# Altium schematic symbol library WE-OLSTM.SchLib: 28 symbols
Pins are listed as number, name and electrical type; pins without a type are passive.

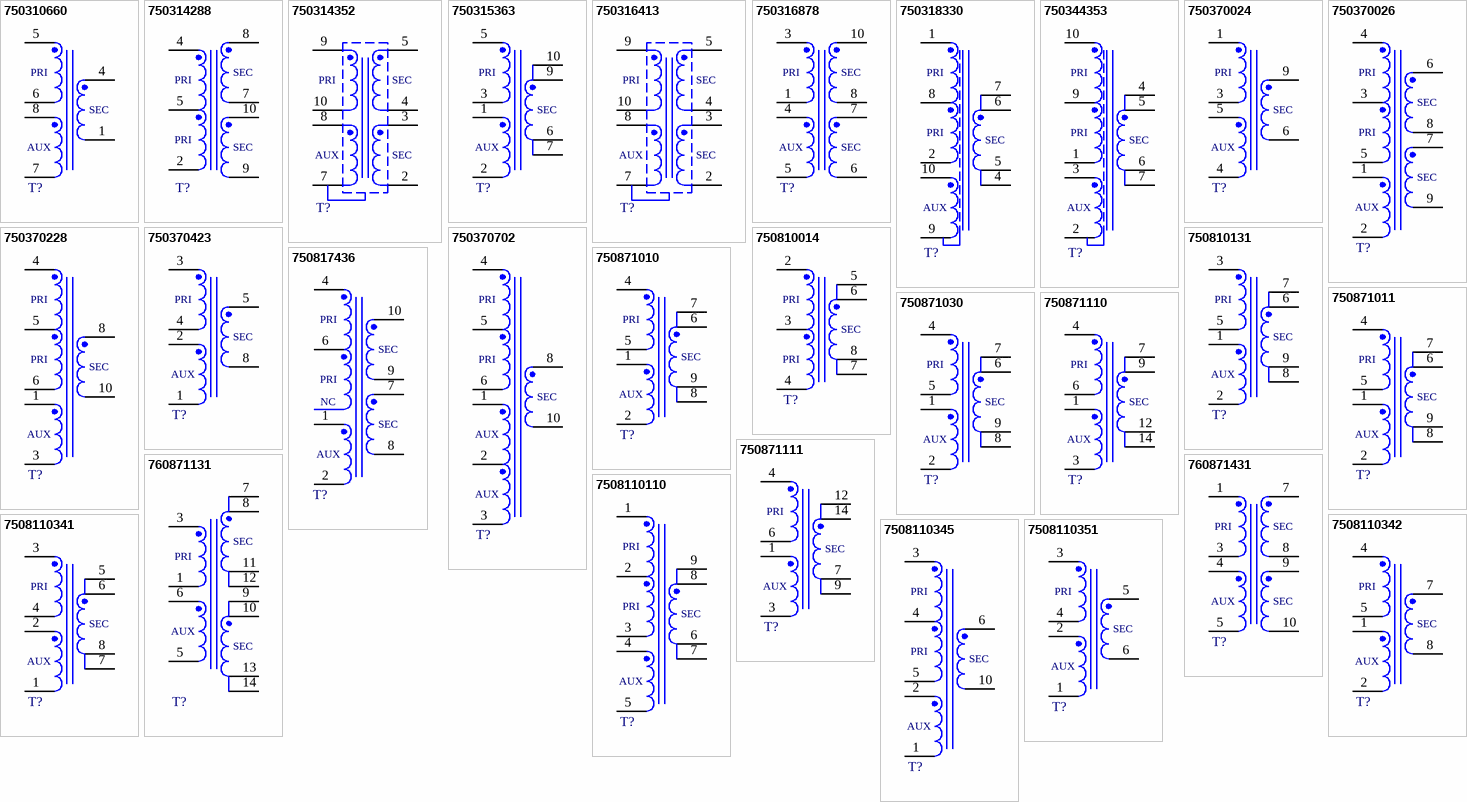
[diagram p0: symbols 750310660 to 7508110351]

## 750310660
designator T?, comment Ui = 85 - 265V, Uo = 12V / 0.5A  (value not drawn)
WE-OLSTM Offline Flyback Transformer, THT, EE16/8/5, Ui = 85 - 265V, Uo = 12V / 0.5A; Manufacturer Part Number: 750310660; Manufacturer: Wurth Elektronik; Inductance: 1.2mH; Input Voltage: 85 - 265V (AC); Insulation Test Voltage: 3600V (AC); Switching Frequency: 120kHz; Category: Transformers For AC-DC Converter; Match Code: WE-OLSTM; ComponentLink1Description: Website Link; ComponentLink1URL: https://www.we-online.com/redexpert/article/750310660?ad; ComponentLink2Description: Datasheet Link; ComponentLink2URL: https://www.we-online.com/redexpert/spec/750310660?ad; Mount: Through Hole; Operating Temperature Max: 125°C; Operating Temperature Min: -40°C; Packaging: Tray; Case/Size Code: EE16/8/5; Auxiliary Voltage: 12V; Output Current: 0.5A; Output Voltage: 12V
footprint EE16/8/5_750310660
pins: 1, 4, 5, 6, 7, 8
text: PRI; SEC; AUX

## 750314288
designator T?, comment Ui = 85 - 265V, Uo1 = -5V / 0.8A, Uo2 = 7V / 0.42A  (value not drawn)
WE-OLSTM Offline Flyback Transformer, THT, EE16/7/5, Ui = 85 - 265V, Uo1 = -5V / 0.8A, Uo2 = 7V / 0.42A; Manufacturer Part Number: 750314288; Manufacturer: Wurth Elektronik; Inductance: 2.5mH; Input Voltage: 85 - 265V (AC); Insulation Test Voltage: 2000V (AC); Saturation Current: 0.5A; Switching Frequency: 60kHz; Category: Transformers For AC-DC Converter; Match Code: WE-OLSTM; ComponentLink1Description: Website Link; ComponentLink1URL: https://www.we-online.com/redexpert/article/750314288?ad; ComponentLink2Description: Datasheet Link; ComponentLink2URL: https://www.we-online.com/redexpert/spec/750314288?ad; Mount: Through Hole; Operating Temperature Max: 125°C; Operating Temperature Min: -40°C; Packaging: Tray; Case/Size Code: EE16/7/5; Output Current 1: 0.8A; Output Current 2: 0.42A; Output Voltage 1: -5V; Output Voltage 2: 7V
footprint EE16/7/5_750314288
pins: 2, 4, 5, 7, 8, 9, 10
text: SEC; PRI

## 750314352
designator T?, comment Ui = 85 - 265V, Uo1 = 6V / 0.1A, Uo2 = 15V / 0.7A  (value not drawn)
WE-OLSTM Offline Flyback Transformer, THT, EE16/7/5, Ui = 85 - 265V, Uo1 = 6V / 0.1A, Uo2 = 15V / 0.7A; Manufacturer Part Number: 750314352; Manufacturer: Wurth Elektronik; Auxiliary Voltage: 12V; Inductance: 0.9mH; Input Voltage: 85 - 265V (AC); Insulation Test Voltage: 1500V (AC); Saturation Current: 0.82A; Switching Frequency: 115kHz; Category: Transformers For AC-DC Converter; Match Code: WE-OLSTM; ComponentLink1Description: Website Link; ComponentLink1URL: https://www.we-online.com/redexpert/article/750314352?ad; ComponentLink2Description: Datasheet Link; ComponentLink2URL: https://www.we-online.com/redexpert/spec/750314352?ad; Mount: Through Hole; Operating Temperature Max: 125°C; Operating Temperature Min: -40°C; Packaging: Tray; Case/Size Code: EE16/7/5; Output Current 1: 0.1A; Output Current 2: 0.7A; Output Voltage 1: 6V; Output Voltage 2: 15V
footprint EE16/7/5_750314352
pins: 2, 3, 4, 5, 7, 8, 9, 10
text: PRI; SEC; AUX

## 750315363
designator T?, comment Ui = 85 - 265V, Uo = 12V / 0.6A  (value not drawn)
WE-OLSTM Offline Flyback Transformer, THT, EE16/7/5, Ui = 85 - 265V, Uo = 12V / 0.6A; Manufacturer Part Number: 750315363; Manufacturer: Wurth Elektronik; Auxiliary Voltage: 5.1V; Inductance: 2mH; Input Voltage: 85 - 265V (AC); Insulation Test Voltage: 3000V (AC); Saturation Current: 0.625A; Switching Frequency: 60kHz; Category: Transformers For AC-DC Converter; Match Code: WE-OLSTM; ComponentLink1Description: Website Link; ComponentLink1URL: https://www.we-online.com/redexpert/article/750315363?ad; ComponentLink2Description: Datasheet Link; ComponentLink2URL: https://www.we-online.com/redexpert/spec/750315363?ad; Mount: Through Hole; Operating Temperature Max: 125°C; Operating Temperature Min: -40°C; Packaging: Tray; Case/Size Code: EE16/7/5; Output Current: 0.6A; Output Voltage: 12V
footprint EE16/7/5_750315363
pins: 1, 2, 3, 5, 6, 7, 9, 10
text: PRI; SEC; AUX

## 750316413
designator T?, comment Ui = 85 - 265V, Uo1 = 15V / 0.6A, Uo2 = 6V / 0.1A  (value not drawn)
WE-OLSTM Offline Flyback Transformer, THT, EE16/7/5, Ui = 85 - 265V, Uo1 = 15V / 0.6A, Uo2 = 6V / 0.1A; Manufacturer Part Number: 750316413; Manufacturer: Wurth Elektronik; Auxiliary Voltage: 13V; Inductance: 1.5mH; Input Voltage: 85 - 265V (AC); Insulation Test Voltage: 1500V (AC); Saturation Current: 0.7A; Switching Frequency: 60kHz; Category: Transformers For AC-DC Converter; Match Code: WE-OLSTM; ComponentLink1Description: Website Link; ComponentLink1URL: https://www.we-online.com/redexpert/article/750316413?ad; ComponentLink2Description: Datasheet Link; ComponentLink2URL: https://www.we-online.com/redexpert/spec/750316413?ad; Mount: Through Hole; Operating Temperature Max: 125°C; Operating Temperature Min: -40°C; Packaging: Tray; Case/Size Code: EE16/7/5; Output Current 1: 0.6A; Output Current 2: 0.1A; Output Voltage 1: 15V; Output Voltage 2: 6V
footprint EE16/7/5_750316413
pins: 2, 3, 4, 5, 7, 8, 9, 10
text: PRI; SEC; AUX

## 750316878
designator T?, comment Ui = 85 - 265V, Uo1 = 13V / 0.7A, Uo2 = 4.5V / 0.1A  (value not drawn)
WE-OLSTM Offline Flyback Transformer, THT, EE16/7/5, Ui = 85 - 265V, Uo1 = 13V / 0.7A, Uo2 = 4.5V / 0.1A; Manufacturer Part Number: 750316878; Manufacturer: Wurth Elektronik; Auxiliary Voltage: 15V; Inductance: 2.2mH; Input Voltage: 85 - 265V (AC); Insulation Test Voltage: 4000V (AC); Saturation Current: 0.47A; Switching Frequency: 80kHz; Category: Transformers For AC-DC Converter; Match Code: WE-OLSTM; ComponentLink1Description: Website Link; ComponentLink1URL: https://www.we-online.com/redexpert/article/750316878?ad; ComponentLink2Description: Datasheet Link; ComponentLink2URL: https://www.we-online.com/redexpert/spec/750316878?ad; Mount: Through Hole; Operating Temperature Max: 125°C; Operating Temperature Min: -40°C; Packaging: Tray; Case/Size Code: EE16/7/5; Output Current 1: 0.7A; Output Current 2: 0.1A; Output Voltage 1: 13V; Output Voltage 2: 4.5V
footprint EE16/7/5_750316878
pins: 1, 3, 4, 5, 6, 7, 8, 10
text: PRI; SEC; AUX

## 750318330
designator T?, comment Ui = 120 - 375V, Uo = 12V / 2.25A  (value not drawn)
WE-OLSTM Offline Flyback Transformer, THT, RM8, Ui = 120 - 375V, Uo = 12V / 2.25A; Manufacturer Part Number: 750318330; Manufacturer: Wurth Elektronik; Inductance: 0.15mH; Input Voltage: 120 - 375V (AC); Insulation Test Voltage: 4000V (AC); Saturation Current: 4.8A; Switching Frequency: 56 - 138kHz; Category: Transformers For AC-DC Converter; Match Code: WE-OLSTM; ComponentLink1Description: Website Link; ComponentLink1URL: https://www.we-online.com/redexpert/article/750318330?ad; ComponentLink2Description: Datasheet Link; ComponentLink2URL: https://www.we-online.com/redexpert/spec/750318330?ad; Mount: Through Hole; Operating Temperature Max: 125°C; Operating Temperature Min: -40°C; Packaging: Tray; Case/Size Code: RM8; Auxiliary Voltage: 12V; Output Current: 2.25A; Output Voltage: 12V
footprint RM8_750318330
pins: 1, 2, 4, 5, 6, 7, 8, 9, 10
text: PRI; SEC; AUX

## 750344353
designator T?, comment Ui = 90 - 265V, Uo = 20V / 2.25A  (value not drawn)
WE-OLSTM Offline Flyback Transformer, THT, RM8, Ui = 90 - 265V, Uo = 20V / 2.25A; Manufacturer Part Number: 750344353; Manufacturer: Wurth Elektronik; Auxiliary Voltage: 12V; Inductance: 0.4mH; Input Voltage: 90 - 265V (AC); Insulation Test Voltage: 4000V (AC); Saturation Current: 2A; Switching Frequency: 60 - 150kHz; Category: Transformers For AC-DC Converter; Match Code: WE-OLSTM; ComponentLink1Description: Website Link; ComponentLink1URL: https://www.we-online.com/redexpert/article/750344353?ad; ComponentLink2Description: Datasheet Link; ComponentLink2URL: https://www.we-online.com/redexpert/spec/750344353?ad; Mount: Through Hole; Operating Temperature Max: 125°C; Operating Temperature Min: -40°C; Packaging: Tray; Case/Size Code: RM8; Output Current: 2.25A; Output Voltage: 20V
footprint RM8_750344353
pins: 1, 2, 3, 4, 5, 6, 7, 9, 10
text: PRI; SEC; AUX

## 750370024
designator T?, comment Ui = 85 - 424V, Uo = 12V / 0.5A  (value not drawn)
WE-OLSTM Offline Flyback Transformer, THT, EE13/7/4, Ui = 85 - 424V, Uo = 12V / 0.5A; Manufacturer Part Number: 750370024; Manufacturer: Wurth Elektronik; Auxiliary Voltage: 16V; Inductance: 1.6mH; Input Voltage: 85 - 424V (AC); Insulation Test Voltage: 4000V (AC); Saturation Current: 0.34A; Switching Frequency: 115kHz; Category: Transformers For AC-DC Converter; Match Code: WE-OLSTM; ComponentLink1Description: Website Link; ComponentLink1URL: https://www.we-online.com/redexpert/article/750370024?ad; ComponentLink2Description: Datasheet Link; ComponentLink2URL: https://www.we-online.com/redexpert/spec/750370024?ad; Mount: Through Hole; Operating Temperature Max: 125°C; Operating Temperature Min: -40°C; Packaging: Tray; Case/Size Code: EE13/7/4; Output Current: 0.5A; Output Voltage: 12V
footprint EE13/7/4_750370024
pins: 1, 3, 4, 5, 6, 9
text: PRI; SEC; AUX

## 750370026
designator T?, comment Ui = 85 - 265V, Uo1 = 12V / 0.3A, Uo2 = 12V / 0.3A  (value not drawn)
WE-OLSTM Offline Flyback Transformer, THT, EE16/8/5, Ui = 85 - 265V, Uo1 = 12V / 0.3A, Uo2 = 12V / 0.3A; Manufacturer Part Number: 750370026; Manufacturer: Wurth Elektronik; Inductance: 3.9mH; Input Voltage: 85 - 265V (AC); Insulation Test Voltage: 3200V (AC); Saturation Current: 0.44A; Switching Frequency: 70 - 134kHz; Category: Transformers For AC-DC Converter; Match Code: WE-OLSTM; ComponentLink1Description: Website Link; ComponentLink1URL: https://www.we-online.com/redexpert/article/750370026?ad; ComponentLink2Description: Datasheet Link; ComponentLink2URL: https://www.we-online.com/redexpert/spec/750370026?ad; Mount: Through Hole; Operating Temperature Max: 125°C; Operating Temperature Min: -40°C; Packaging: Tray; Case/Size Code: EE16/8/5; Auxiliary Voltage: 12V; Output Current 1: 0.3A; Output Current 2: 0.3A; Output Voltage 1: 12V; Output Voltage 2: 12V
footprint EE16/8/5_750370026
pins: 1, 2, 3, 4, 5, 6, 7, 8, 9
text: PRI; SEC; AUX

## 750370228
designator T?, comment Ui = 85 - 265V, Uo = 12V / 1.25A  (value not drawn)
WE-OLSTM Offline Flyback Transformer, THT, EE20/10/6, Ui = 85 - 265V, Uo = 12V / 1.25A; Manufacturer Part Number: 750370228; Manufacturer: Wurth Elektronik; Inductance: 1.5mH; Input Voltage: 85 - 265V (AC); Insulation Test Voltage: 3900V (AC); Saturation Current: 1.325A; Switching Frequency: 50 - 60kHz; Category: Transformers For AC-DC Converter; Match Code: WE-OLSTM; ComponentLink1Description: Website Link; ComponentLink1URL: https://www.we-online.com/redexpert/article/750370228?ad; ComponentLink2Description: Datasheet Link; ComponentLink2URL: https://www.we-online.com/redexpert/spec/750370228?ad; Mount: Through Hole; Operating Temperature Max: 125°C; Operating Temperature Min: -40°C; Packaging: Tray; Case/Size Code: EE20/10/6; Auxiliary Voltage: 12V; Output Current: 1.25A; Output Voltage: 12V
footprint EE20/10/6_750370228
pins: 1, 3, 4, 5, 6, 8, 10
text: PRI; SEC; AUX

## 750370423
designator T?, comment Ui = 85 - 265V, Uo = 5V / 0.6A  (value not drawn)
WE-OLSTM Offline Flyback Transformer, THT, EE13/7/6, Ui = 85 - 265V, Uo = 5V / 0.6A; Manufacturer Part Number: 750370423; Manufacturer: Wurth Elektronik; Auxiliary Voltage: 13.3V; Input Voltage: 85 - 265V (AC); Insulation Test Voltage: 3900V (AC); Switching Frequency: 115kHz; Category: Transformers For AC-DC Converter; Match Code: WE-OLSTM; ComponentLink1Description: Website Link; ComponentLink1URL: https://www.we-online.com/redexpert/article/750370423?ad; ComponentLink2Description: Datasheet Link; ComponentLink2URL: https://www.we-online.com/redexpert/spec/750370423?ad; Mount: Through Hole; Operating Temperature Max: 125°C; Operating Temperature Min: -40°C; Packaging: Tray; Case/Size Code: EE13/7/6; Output Current: 0.6A; Output Voltage: 5V; Saturation Current: 0.6A
footprint EE13/7/6_750370423
pins: 1, 2, 3, 4, 5, 8
text: PRI; SEC; AUX

## 750370702
designator T?, comment Ui = 85 - 264V, Uo = 12V / 1A  (value not drawn)
WE-OLSTM Offline Flyback Transformer, THT, EE20/10/6, Ui = 85 - 264V, Uo = 12V / 1A; Manufacturer Part Number: 750370702; Manufacturer: Wurth Elektronik; Auxiliary Voltage: 15V; Inductance: 1.5mH; Input Voltage: 85 - 264V (AC); Insulation Test Voltage: 3200V (AC); Saturation Current: 1.2A; Switching Frequency: 67 - 97kHz; Category: Transformers For AC-DC Converter; Match Code: WE-OLSTM; ComponentLink1Description: Website Link; ComponentLink1URL: https://www.we-online.com/redexpert/article/750370702?ad; ComponentLink2Description: Datasheet Link; ComponentLink2URL: https://www.we-online.com/redexpert/spec/750370702?ad; Mount: Through Hole; Operating Temperature Max: 125°C; Operating Temperature Min: -40°C; Packaging: Tray; Case/Size Code: EE20/10/6; Output Current: 1A; Output Voltage: 12V
footprint EE20/10/6_750370702
pins: 1, 2, 3, 4, 5, 6, 8, 10
text: PRI; SEC; AUX

## 750810014
designator T?, comment Ui = 85 - 265V, Uo = 5V / 1.2A  (value not drawn)
WE-OLSTM Offline Flyback Transformer, THT, EE13/7/6, Ui = 85 - 265V, Uo = 5V / 1.2A; Manufacturer Part Number: 750810014; Manufacturer: Wurth Elektronik; Inductance: 2mH; Input Voltage: 85 - 265V (AC); Insulation Test Voltage: 1875V (AC); Saturation Current: 0.53A; Switching Frequency: 60kHz; Category: Transformers For AC-DC Converter; Match Code: WE-OLSTM; ComponentLink1Description: Website Link; ComponentLink1URL: https://www.we-online.com/redexpert/article/750810014?ad; ComponentLink2Description: Datasheet Link; ComponentLink2URL: https://www.we-online.com/redexpert/spec/750810014?ad; Mount: Through Hole; Operating Temperature Max: 125°C; Operating Temperature Min: -40°C; Packaging: Tray; Case/Size Code: EE13/7/6; Output Current: 1.2A; Output Voltage: 5V
footprint EE13/7/6_750810014
pins: 2, 3, 4, 5, 6, 7, 8
text: PRI; SEC

## 750810131
designator T?, comment Ui = 85 - 265V, Uo = 12V / 1A  (value not drawn)
WE-OLSTM Offline Flyback Transformer, THT, EE16/8/5, Ui = 85 - 265V, Uo = 12V / 1A; Manufacturer Part Number: 750810131; Manufacturer: Wurth Elektronik; Inductance: 1.8mH; Input Voltage: 85 - 265V (AC); Insulation Test Voltage: 2500V (AC); Saturation Current: 0.32A; Switching Frequency: 115kHz; Category: Transformers For AC-DC Converter; Match Code: WE-OLSTM; ComponentLink1Description: Website Link; ComponentLink1URL: https://www.we-online.com/redexpert/article/750810131?ad; ComponentLink2Description: Datasheet Link; ComponentLink2URL: https://www.we-online.com/redexpert/spec/750810131?ad; Mount: Through Hole; Operating Temperature Max: 125°C; Operating Temperature Min: -40°C; Packaging: Tray; Case/Size Code: EE16/8/5; Auxiliary Voltage: 12V; Output Current: 1A; Output Voltage: 12V
footprint EE16/8/5_750810131
pins: 1, 2, 3, 5, 6, 7, 8, 9
text: PRI; SEC; AUX

## 750817436
designator T?, comment Ui = 265 - 297V, Uo1 = 5V / 0.5A, Uo2 = 12V / 0.22A  (value not drawn)
WE-OLSTM Offline Flyback Transformer, THT, EE16/7/5, Ui = 265 - 297V, Uo1 = 5V / 0.5A, Uo2 = 12V / 0.22A; Manufacturer Part Number: 750817436; Manufacturer: Wurth Elektronik; Auxiliary Voltage: 15V; Inductance: 2.3mH; Input Voltage: 265 - 297V (AC); Insulation Test Voltage: 3000V (AC); Saturation Current: 0.42A; Switching Frequency: 115kHz; Category: Transformers For AC-DC Converter; Match Code: WE-OLSTM; ComponentLink1Description: Website Link; ComponentLink1URL: https://www.we-online.com/redexpert/article/750817436?ad; ComponentLink2Description: Datasheet Link; ComponentLink2URL: https://www.we-online.com/redexpert/spec/750817436?ad; Mount: Through Hole; Operating Temperature Max: 125°C; Operating Temperature Min: -40°C; Packaging: Tray; Case/Size Code: EE16/7/5; Output Current 1: 0.5A; Output Current 2: 0.22A; Output Voltage 1: 5V; Output Voltage 2: 12V
footprint EE16/7/5_750817436
pins: 1, 2, 4, 6, 7, 8, 9, 10
text: PRI; SEC; NC; AUX

## 750871010
designator T?, comment Ui = 85 - 265V, Uo = 5V / 1A  (value not drawn)
WE-OLSTM Offline Flyback Transformer, THT, EE16/8/5, Ui = 85 - 265V, Uo = 5V / 1A; Manufacturer Part Number: 750871010; Manufacturer: Wurth Elektronik; Auxiliary Voltage: 12V; Inductance: 3.3mH; Input Voltage: 85 - 265V (AC); Insulation Test Voltage: 4000V (AC); Switching Frequency: 60kHz; Category: Transformers For AC-DC Converter; Match Code: WE-OLSTM; ComponentLink1Description: Website Link; ComponentLink1URL: https://www.we-online.com/redexpert/article/750871010?ad; ComponentLink2Description: Datasheet Link; ComponentLink2URL: https://www.we-online.com/redexpert/spec/750871010?ad; Mount: Through Hole; Operating Temperature Max: 125°C; Operating Temperature Min: -40°C; Packaging: Tray; Case/Size Code: EE16/8/5; Output Current: 1A; Output Voltage: 5V
footprint EE16/8/5_750871010
pins: 1, 2, 4, 5, 6, 7, 8, 9
text: PRI; SEC; AUX

## 750871011
designator T?, comment Ui = 85 - 265V, Uo = 5V / 1A  (value not drawn)
WE-OLSTM Offline Flyback Transformer, THT, EE16/8/5, Ui = 85 - 265V, Uo = 5V / 1A; Manufacturer Part Number: 750871011; Manufacturer: Wurth Elektronik; Auxiliary Voltage: 12V; Inductance: 4mH; Input Voltage: 85 - 265V (AC); Insulation Test Voltage: 5000V (AC); Switching Frequency: 50 - 140kHz; Category: Transformers For AC-DC Converter; Match Code: WE-OLSTM; ComponentLink1Description: Website Link; ComponentLink1URL: https://www.we-online.com/redexpert/article/750871011?ad; ComponentLink2Description: Datasheet Link; ComponentLink2URL: https://www.we-online.com/redexpert/spec/750871011?ad; Mount: Through Hole; Operating Temperature Max: 125°C; Operating Temperature Min: -40°C; Packaging: Tray; Case/Size Code: EE16/8/5; Output Current: 1A; Output Voltage: 5V
footprint EE16/8/5_750871011
pins: 1, 2, 4, 5, 6, 7, 8, 9
text: PRI; SEC; AUX

## 750871030
designator T?, comment Ui = 85 - 265V, Uo = 12V / 0.6A  (value not drawn)
WE-OLSTM Offline Flyback Transformer, THT, EE16/8/5, Ui = 85 - 265V, Uo = 12V / 0.6A; Manufacturer Part Number: 750871030; Manufacturer: Wurth Elektronik; Inductance: 2.38mH; Input Voltage: 85 - 265V (AC); Insulation Test Voltage: 5000V (AC); Switching Frequency: 60kHz; Category: Transformers For AC-DC Converter; Match Code: WE-OLSTM; ComponentLink1Description: Website Link; ComponentLink1URL: https://www.we-online.com/redexpert/article/750871030?ad; ComponentLink2Description: Datasheet Link; ComponentLink2URL: https://www.we-online.com/redexpert/spec/750871030?ad; Mount: Through Hole; Operating Temperature Max: 125°C; Operating Temperature Min: -40°C; Packaging: Tray; Case/Size Code: EE16/8/5; Auxiliary Voltage: 12V; Output Current: 0.6A; Output Voltage: 12V
footprint EE16/8/5_750871030
pins: 1, 2, 4, 5, 6, 7, 8, 9
text: PRI; SEC; AUX

## 750871110
designator T?, comment Ui = 85 - 265V, Uo = 5V / 2.5A  (value not drawn)
WE-OLSTM Offline Flyback Transformer, THT, EE20/10/6, Ui = 85 - 265V, Uo = 5V / 2.5A; Manufacturer Part Number: 750871110; Manufacturer: Wurth Elektronik; Auxiliary Voltage: 10V; Inductance: 1.6mH; Input Voltage: 85 - 265V (AC); Insulation Test Voltage: 4000V (AC); Switching Frequency: 60kHz; Category: Transformers For AC-DC Converter; Match Code: WE-OLSTM; ComponentLink1Description: Website Link; ComponentLink1URL: https://www.we-online.com/redexpert/article/750871110?ad; ComponentLink2Description: Datasheet Link; ComponentLink2URL: https://www.we-online.com/redexpert/spec/750871110?ad; Mount: Through Hole; Operating Temperature Max: 125°C; Operating Temperature Min: -40°C; Packaging: Tray; Case/Size Code: EE20/10/6; Output Current: 2.5A; Output Voltage: 5V
footprint EE20/10/6_750871110
pins: 1, 3, 4, 6, 7, 9, 12, 14
text: PRI; SEC; AUX

## 750871111
designator T?, comment Ui = 85 - 272V, Uo = 5V / 2.4A  (value not drawn)
WE-OLSTM Offline Flyback Transformer, THT, EE20/10/6, Ui = 85 - 272V, Uo = 5V / 2.4A; Manufacturer Part Number: 750871111; Manufacturer: Wurth Elektronik; Auxiliary Voltage: 12V; Inductance: 1.7mH; Input Voltage: 85 - 272V (AC); Insulation Test Voltage: 4000V (AC); Switching Frequency: 60kHz; Category: Transformers For AC-DC Converter; Match Code: WE-OLSTM; ComponentLink1Description: Website Link; ComponentLink1URL: https://www.we-online.com/redexpert/article/750871111?ad; ComponentLink2Description: Datasheet Link; ComponentLink2URL: https://www.we-online.com/redexpert/spec/750871111?ad; Mount: Through Hole; Operating Temperature Max: 125°C; Operating Temperature Min: -40°C; Packaging: Tray; Case/Size Code: EE20/10/6; Output Current: 2.4A; Output Voltage: 5V
footprint EE20/10/6_750871111
pins: 1, 3, 4, 6, 7, 9, 12, 14
text: PRI; SEC; AUX

## 760871131
designator T?, comment Ui = 85 - 265V, Uo1 = 12V / 0.5A, Uo2 = 12V / 0.5A  (value not drawn)
WE-OLSTM Offline Flyback Transformer, THT, EE20/10/6, Ui = 85 - 265V, Uo1 = 12V / 0.5A, Uo2 = 12V / 0.5A; Manufacturer Part Number: 760871131; Manufacturer: Wurth Elektronik; Auxiliary Voltage: 15V; Inductance: 1.396mH; Input Voltage: 85 - 265V (AC); Insulation Test Voltage: 4000V (AC); Saturation Current: 0.7A; Switching Frequency: 60kHz; Category: Transformers For AC-DC Converter; Match Code: WE-OLSTM; ComponentLink1Description: Website Link; ComponentLink1URL: https://www.we-online.com/redexpert/article/760871131?ad; ComponentLink2Description: Datasheet Link; ComponentLink2URL: https://www.we-online.com/redexpert/spec/760871131?ad; Mount: Through Hole; Operating Temperature Max: 125°C; Operating Temperature Min: -40°C; Packaging: Tray; Case/Size Code: EE20/10/6; Output Current 1: 0.5A; Output Current 2: 0.5A; Output Voltage 1: 12V; Output Voltage 2: 12V
footprint EE20/10/6_760871131
pins: 1, 3, 5, 6, 7, 8, 9, 10, 11, 12, 13, 14
text: SEC; PRI; AUX

## 760871431
designator T?, comment Ui = 88 - 265V, Uo1 = 4.5V / 0.15A, Uo2 = 13V / 0.42A  (value not drawn)
WE-OLSTM Offline Flyback Transformer, THT, EE16/7/5, Ui = 88 - 265V, Uo1 = 4.5V / 0.15A, Uo2 = 13V / 0.42A; Manufacturer Part Number: 760871431; Manufacturer: Wurth Elektronik; Inductance: 2mH; Input Voltage: 88 - 265V (AC); Insulation Test Voltage: 4500V (AC); Switching Frequency: 55kHz; Category: Transformers For AC-DC Converter; Match Code: WE-OLSTM; ComponentLink1Description: Website Link; ComponentLink1URL: https://www.we-online.com/redexpert/article/760871431?ad; ComponentLink2Description: Datasheet Link; ComponentLink2URL: https://www.we-online.com/redexpert/spec/760871431?ad; Mount: Through Hole; Operating Temperature Max: 125°C; Operating Temperature Min: -40°C; Packaging: Tray; Case/Size Code: EE16/7/5; Output Current 1: 0.15A; Output Current 2: 0.42A; Output Voltage 1: 4.5V; Output Voltage 2: 13V
footprint EE16/7/5_760871431
pins: 1, 3, 4, 5, 7, 8, 9, 10
text: PRI; SEC; AUX

## 7508110110
designator T?, comment Ui = 85 - 265V, Uo = 5V / 1.2A  (value not drawn)
WE-OLSTM Offline Flyback Transformer, THT, EE16/8/5, Ui = 85 - 265V, Uo = 5V / 1.2A; Manufacturer Part Number: 7508110110; Manufacturer: Wurth Elektronik; Auxiliary Voltage: 12V; Inductance: 1.23mH; Input Voltage: 85 - 265V (AC); Insulation Test Voltage: 3000V (AC); Saturation Current: 0.6A; Switching Frequency: 115kHz; Category: Transformers For AC-DC Converter; Match Code: WE-OLSTM; ComponentLink1Description: Website Link; ComponentLink1URL: https://www.we-online.com/redexpert/article/7508110110?ad; ComponentLink2Description: Datasheet Link; ComponentLink2URL: https://www.we-online.com/redexpert/spec/7508110110?ad; Mount: Through Hole; Operating Temperature Max: 125°C; Operating Temperature Min: -40°C; Packaging: Tray; Case/Size Code: EE16/8/5; Output Current: 1.2A; Output Voltage: 5V
footprint EE16/8/5_7508110110
pins: 1, 2, 3, 4, 5, 6, 7, 8, 9
text: PRI; SEC; AUX

## 7508110341
designator T?, comment Ui = 85 - 265V, Uo = 12V / 0.35A  (value not drawn)
WE-OLSTM Offline Flyback Transformer, THT, EE13/7/6, Ui = 85 - 265V, Uo = 12V / 0.35A; Manufacturer Part Number: 7508110341; Manufacturer: Wurth Elektronik; Auxiliary Voltage: 15V; Inductance: 1.5mH; Input Voltage: 85 - 265V (AC); Insulation Test Voltage: 4000V (AC); Saturation Current: 0.52A; Switching Frequency: 115kHz; Category: Transformers For AC-DC Converter; Match Code: WE-OLSTM; ComponentLink1Description: Website Link; ComponentLink1URL: https://www.we-online.com/redexpert/article/7508110341?ad; ComponentLink2Description: Datasheet Link; ComponentLink2URL: https://www.we-online.com/redexpert/spec/7508110341?ad; Mount: Through Hole; Operating Temperature Max: 125°C; Operating Temperature Min: -40°C; Packaging: Tray; Case/Size Code: EE13/7/6; Output Current: 0.35A; Output Voltage: 12V
footprint EE13/7/6_7508110341
pins: 1, 2, 3, 4, 5, 6, 7, 8
text: PRI; SEC; AUX

## 7508110342
designator T?, comment Ui = 85 - 265V, Uo = 12V / 0.35A  (value not drawn)
WE-OLSTM Offline Flyback Transformer, THT, EE16/8/5, Ui = 85 - 265V, Uo = 12V / 0.35A; Manufacturer Part Number: 7508110342; Manufacturer: Wurth Elektronik; Inductance: 1.2mH; Input Voltage: 85 - 265V (AC); Insulation Test Voltage: 4000V (AC); Saturation Current: 0.58A; Switching Frequency: 60kHz; Category: Transformers For AC-DC Converter; Match Code: WE-OLSTM; ComponentLink1Description: Website Link; ComponentLink1URL: https://www.we-online.com/redexpert/article/7508110342?ad; ComponentLink2Description: Datasheet Link; ComponentLink2URL: https://www.we-online.com/redexpert/spec/7508110342?ad; Mount: Through Hole; Operating Temperature Max: 125°C; Operating Temperature Min: -40°C; Packaging: Tray; Case/Size Code: EE16/8/5; Auxiliary Voltage: 12V; Output Current: 0.35A; Output Voltage: 12V
footprint EE16/8/5_7508110342
pins: 1, 2, 4, 5, 7, 8
text: PRI; SEC; AUX

## 7508110345
designator T?, comment Ui = 85 - 265V, Uo = 12V / 0.5A  (value not drawn)
WE-OLSTM Offline Flyback Transformer, THT, EE16/7/5, Ui = 85 - 265V, Uo = 12V / 0.5A; Manufacturer Part Number: 7508110345; Manufacturer: Wurth Elektronik; Auxiliary Voltage: 6V; Inductance: 2mH; Input Voltage: 85 - 265V (AC); Insulation Test Voltage: 4000V (AC); Saturation Current: 0.48A; Switching Frequency: 60kHz; Category: Transformers For AC-DC Converter; Match Code: WE-OLSTM; ComponentLink1Description: Website Link; ComponentLink1URL: https://www.we-online.com/redexpert/article/7508110345?ad; ComponentLink2Description: Datasheet Link; ComponentLink2URL: https://www.we-online.com/redexpert/spec/7508110345?ad; Mount: Through Hole; Operating Temperature Max: 125°C; Operating Temperature Min: -40°C; Packaging: Tray; Case/Size Code: EE16/7/5; Output Current: 0.5A; Output Voltage: 12V
footprint EE16/7/5_7508110345
pins: 1, 2, 3, 4, 5, 6, 10
text: PRI; SEC; AUX

## 7508110351
designator T?, comment Ui = 90 - 375V, Uo = 12V / 0.5A  (value not drawn)
WE-OLSTM Offline Flyback Transformer, THT, EE13/7/6, Ui = 90 - 375V, Uo = 12V / 0.5A; Manufacturer Part Number: 7508110351; Manufacturer: Wurth Elektronik; Auxiliary Voltage: 15V; Inductance: 2.5mH; Input Voltage: 90 - 375V (AC); Insulation Test Voltage: 3000V (AC); Saturation Current: 0.53A; Switching Frequency: 54 - 66kHz; Category: Transformers For AC-DC Converter; Match Code: WE-OLSTM; ComponentLink1Description: Website Link; ComponentLink1URL: https://www.we-online.com/redexpert/article/7508110351?ad; ComponentLink2Description: Datasheet Link; ComponentLink2URL: https://www.we-online.com/redexpert/spec/7508110351?ad; Mount: Through Hole; Operating Temperature Max: 125°C; Operating Temperature Min: -40°C; Packaging: Tray; Case/Size Code: EE13/7/6; Output Current: 0.5A; Output Voltage: 12V
footprint EE13/7/6_7508110351
pins: 1, 2, 3, 4, 5, 6
text: PRI; SEC; AUX